# Altium integrated library Motorola Interface Bridge Driver.IntLib: 1 symbol
Pins are listed as number, name and electrical type; pins without a type are passive.

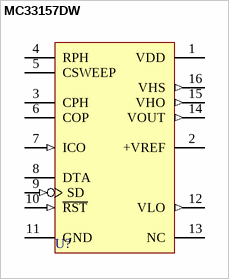
[diagram p0: symbol MC33157DW]

## MC33157DW
designator U?
Half Bridge Controller and Driver for Industrial Linear Tubes; Published: 17-Jul-2002; LatestRevisionDate: 13-Apr-2006; LatestRevisionNote: IPC-7351 Footprint Added.; DatasheetVersion: Nov-1999; PackageVersion: Nov-1999; PackageReference: 751G-03; Publisher: Altium Limited; PackageDescription: 16-Pin Small Outline Integrated Circuit 1.27 mm Pitch
footprint 751G-03_N (SOIC, 16-Leads, Body 10.3x7.5mm, Pitch 1.27mm, IPC Medium Density)
footprint 751G-03_L (SOIC, 16-Leads, Body 10.3x7.5mm, Pitch 1.27mm, IPC High Density)
footprint 751G-03_M (SOIC, 16-Leads, Body 10.3x7.5mm, Pitch 1.27mm, IPC Low Density)
3D model 751G-03 (16-Pin Small Outline Integrated Circuit 1.27 mm Pitch)
pins: 1 VDD (power), 2 +VREF (power), 3 CPH, 4 RPH, 5 CSWEEP, 6 COP, 7 ICO (in), 8 DTA, 9 SD (in), 10 ~{RST} (in), 11 GND (power), 12 VLO (out), 13 NC, 14 VOUT (out), 15 VHO (out), 16 VHS (out)